# Altium schematic symbol library SN74LV07A.Schlib: 1 symbol
Pins are listed as number, name and electrical type; pins without a type are passive.

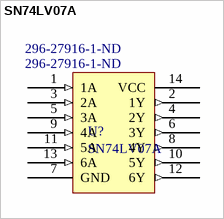
[diagram p0: symbol SN74LV07A]

## SN74LV07A
designator U?  Supplier Part Number: 296-27916-1-ND
Six element 1-bit non-inverting open-drain buffer.; Supplier: Digi-Key; Supplier 1: Digi-Key; Supplier Part Number 1: 296-27916-1-ND
footprint SOP65P640X120-14N (SOP + Pitch P + Lead Span Nominal X Height - #Pins)
pins: 1 1A (in), 2 1Y (out), 3 2A (in), 4 2Y (out), 5 3A (in), 6 3Y (out), 7 GND (power), 8 4Y (out), 9 4A (in), 10 5Y (out), 11 5A (in), 12 6Y (out), 13 6A (in), 14 VCC (power)